# Altium footprint library LFCSP.PcbLib: 8 footprints
Each footprint in its own frame and in the unit in brackets; x right, y up, seen from the top. Pads: shape width x height; smd on the part's side, far side on the other; paste and mask are expansions set on the pad; w line width, h text height; cw(c..) or ccw(c..) is an arc to the next point about the centre after c.
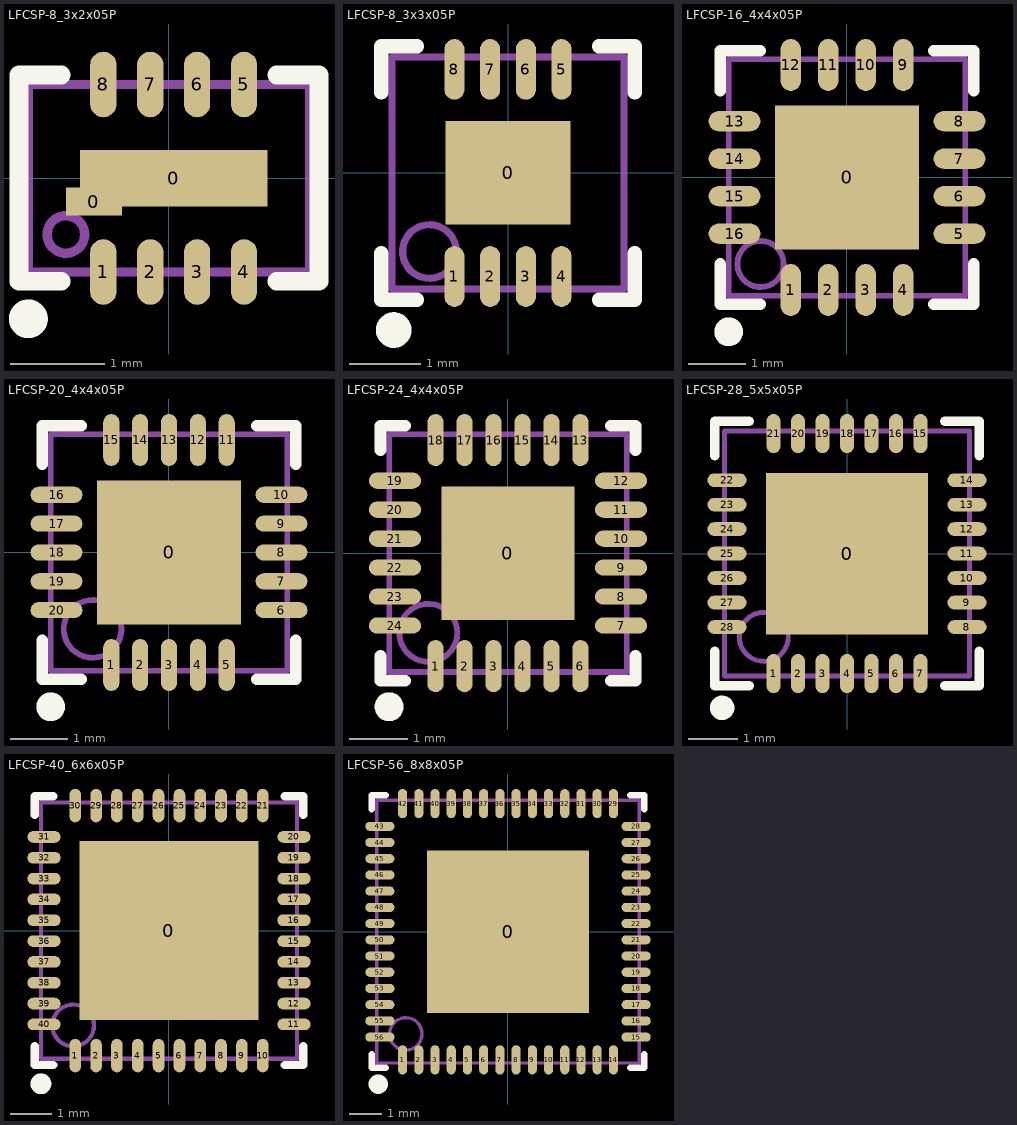
[diagram p0: the footprints below, top view; thin cyan lines are the x and y axes]

## LFCSP-8_3x2x05P [mm]
pads (10):
  rect 0.6x0.3 smd mask+0.051: 0(-0.8,-0.25)
  rect 2x0.6 smd mask+0.051: 0(0.05,0)
  oval 0.28x0.7 smd mask+0.051: 1(-0.7,-1) 2(-0.2,-1) 3(0.3,-1) 4(0.8,-1) 5(0.8,1) 6(0.3,1) 7(-0.2,1) 8(-0.7,1)
Top Overlay:
  circle w0.254: c-1.5,-1.5 r0.08
  lines w0.2: -1.15,-1.1 -1.6,-1.1 -1.6,1.1 -1.15,1.1 ; 1.15,-1.1 1.6,-1.1 1.6,1.1 1.15,1.1
Mechanical 13:
  circle w0.1: c-1.1,-0.6 r0.2
  lines w0.1: -1.5,-1 -1.5,1 1.5,1 1.5,-1 -1.5,-1

## LFCSP-8_3x3x05P [mm]
pads (9):
  rect 1.75x1.45 smd mask+0.051: 0(0,0)
  oval 0.28x0.85 smd mask+0.051: 1(-0.75,-1.45) 2(-0.25,-1.45) 3(0.25,-1.45) 4(0.75,-1.45) 5(0.75,1.45) 6(0.25,1.45) 7(-0.25,1.45) 8(-0.75,1.45)
Top Overlay:
  circle w0.25: c-1.6,-2.2 r0.125
  lines w0.2: -1.775,-1.125 -1.775,-1.775 -1.275,-1.775 ; -1.775,1.125 -1.775,1.775 -1.275,1.775 ; 1.275,-1.775 1.775,-1.775 1.775,-1.125 ; 1.275,1.775 1.775,1.775 1.775,1.125
Mechanical 13:
  circle w0.1: c-1.1,-1.1 r0.376
  lines w0.1: -1.625,-1.625 -1.625,1.625 1.625,1.625 1.625,-1.625 -1.625,-1.625

## LFCSP-16_4x4x05P [mm]
pads (18):
  rect 2.5x2.5 smd paste-1.225 mask+0.051: 0(0,0)
  oval 0.35x0.9 smd mask+0.051: 1(-0.975,-1.95) 2(-0.325,-1.95) 3(0.325,-1.95) 4(0.975,-1.95) 9(0.975,1.95) 10(0.325,1.95) 11(-0.325,1.95) 12(-0.975,1.95)
  oval 0.9x0.35 smd mask+0.051: 5(1.95,-0.975) 6(1.95,-0.325) 7(1.95,0.325) 8(1.95,0.975) 13(-1.95,0.975) 14(-1.95,0.325) 15(-1.95,-0.325) 16(-1.95,-0.975)
  rect 2.5x2.5 smd mask+0.051: ""(0,0)
Top Overlay:
  circle w0.25: c-2.05,-2.675 r0.125
  lines w0.2: -2.2,-1.5 -2.2,-2.2 -1.5,-2.2 ; -2.2,1.5 -2.2,2.2 -1.5,2.2 ; 1.5,-2.2 2.2,-2.2 2.2,-1.5 ; 1.5,2.2 2.2,2.2 2.2,1.5
Mechanical 13:
  circle w0.1: c-1.5,-1.5 r0.4
  lines w0.1: -2.05,-2.05 2.05,-2.05 2.05,2.05 -2.05,2.05 -2.05,-2.05

## LFCSP-20_4x4x05P [mm]
pads (21):
  rect 2.5x2.5 smd mask+0.051: 0(0,0)
  oval 0.28x0.9 smd mask+0.051: 1(-1,-1.95) 2(-0.5,-1.95) 3(0,-1.95) 4(0.5,-1.95) 5(1,-1.95) 11(1,1.95) 12(0.5,1.95) 13(0,1.95) 14(-0.5,1.95) 15(-1,1.95)
  oval 0.9x0.28 smd mask+0.051: 6(1.95,-1) 7(1.95,-0.5) 8(1.95,0) 9(1.95,0.5) 10(1.95,1) 16(-1.95,1) 17(-1.95,0.5) 18(-1.95,0) 19(-1.95,-0.5) 20(-1.95,-1)
Top Overlay:
  circle w0.25: c-2.05,-2.675 r0.125
  lines w0.2: -2.2,-1.525 -2.2,-2.2 -1.525,-2.2 ; -2.2,1.525 -2.2,2.2 -1.525,2.2 ; 1.525,-2.2 2.2,-2.2 2.2,-1.525 ; 1.525,2.2 2.2,2.2 2.2,1.525
Mechanical 13:
  circle w0.1: c-1.325,-1.325 r0.5
  lines w0.1: -2.05,-2.05 -2.05,2.05 2.05,2.05 2.05,-2.05 -2.05,-2.05

## LFCSP-24_4x4x05P [mm]
pads (26):
  rect 2.3x2.3 smd paste-1.05 mask+0.051: 0(0,0)
  oval 0.28x0.9 smd mask+0.051: 1(-1.25,-1.95) 2(-0.75,-1.95) 3(-0.25,-1.95) 4(0.25,-1.95) 5(0.75,-1.95) 6(1.25,-1.95) 13(1.25,1.95) 14(0.75,1.95) 15(0.25,1.95) 16(-0.25,1.95) 17(-0.75,1.95) 18(-1.25,1.95)
  oval 0.9x0.28 smd mask+0.051: 7(1.95,-1.25) 8(1.95,-0.75) 9(1.95,-0.25) 10(1.95,0.25) 11(1.95,0.75) 12(1.95,1.25) 19(-1.95,1.25) 20(-1.95,0.75) 21(-1.95,0.25) 22(-1.95,-0.25) 23(-1.95,-0.75) 24(-1.95,-1.25)
  rect 2.3x2.3 smd mask+0.051: ""(0,0)
Top Overlay:
  circle w0.25: c-2.05,-2.65 r0.125
  lines w0.2: -2.2,-1.775 -2.2,-2.2 -1.775,-2.2 ; -2.2,1.775 -2.2,2.2 -1.775,2.2 ; 1.775,-2.2 2.2,-2.2 2.2,-1.775 ; 1.775,2.2 2.2,2.2 2.2,1.775
Mechanical 13:
  circle w0.1: c-1.375,-1.375 r0.5
  lines w0.1: -2.05,-2.05 2.05,-2.05 2.05,2.05 -2.05,2.05 -2.05,-2.05

## LFCSP-28_5x5x05P [mm]
pads (29):
  rect 3.3x3.3 smd mask+0.051: 0(0,0)
  oval 0.28x0.8 smd mask+0.051: 1(-1.5,-2.45) 2(-1,-2.45) 3(-0.5,-2.45) 4(0,-2.45) 5(0.5,-2.45) 6(1,-2.45) 7(1.5,-2.45) 15(1.5,2.45) 16(1,2.45) 17(0.5,2.45) 18(0,2.45) 19(-0.5,2.45) 20(-1,2.45) 21(-1.5,2.45)
  oval 0.8x0.28 smd mask+0.051: 8(2.45,-1.5) 9(2.45,-1) 10(2.45,-0.5) 11(2.45,0) 12(2.45,0.5) 13(2.45,1) 14(2.45,1.5) 22(-2.45,1.5) 23(-2.45,1) 24(-2.45,0.5) 25(-2.45,0) 26(-2.45,-0.5) 27(-2.45,-1) 28(-2.45,-1.5)
Top Overlay:
  circle w0.25: c-2.55,-3.15 r0.125
  lines w0.2: -2.7,-2 -2.7,-2.7 -2,-2.7 ; -2.7,2 -2.7,2.7 -2,2.7 ; 2,-2.7 2.7,-2.7 2.7,-2 ; 2,2.7 2.7,2.7 2.7,2
Mechanical 13:
  circle w0.1: c-1.7,-1.7 r0.5
  lines w0.1: -2.5,-2.5 2.5,-2.5 2.5,2.5 -2.5,2.5 -2.5,-2.5

## LFCSP-40_6x6x05P [mm]
pads (41):
  rect 4.3x4.3 smd mask+0.051: 0(0,0)
  oval 0.28x0.8 smd mask+0.051: 1(-2.25,-3) 2(-1.75,-3) 3(-1.25,-3) 4(-0.75,-3) 5(-0.25,-3) 6(0.25,-3) 7(0.75,-3) 8(1.25,-3) 9(1.75,-3) 10(2.25,-3) 21(2.25,3) 22(1.75,3) 23(1.25,3) 24(0.75,3) 25(0.25,3) 26(-0.25,3) 27(-0.75,3) 28(-1.25,3) 29(-1.75,3) 30(-2.25,3)
  oval 0.8x0.28 smd mask+0.051: 11(3,-2.25) 12(3,-1.75) 13(3,-1.25) 14(3,-0.75) 15(3,-0.25) 16(3,0.25) 17(3,0.75) 18(3,1.25) 19(3,1.75) 20(3,2.25) 31(-3,2.25) 32(-3,1.75) 33(-3,1.25) 34(-3,0.75) 35(-3,0.25) 36(-3,-0.25) 37(-3,-0.75) 38(-3,-1.25) 39(-3,-1.75) 40(-3,-2.25)
Top Overlay:
  circle w0.25: c-3.075,-3.675 r0.125
  lines w0.2: -3.225,-2.775 -3.225,-3.225 -2.775,-3.225 ; -3.225,2.775 -3.225,3.225 -2.775,3.225 ; 2.775,-3.225 3.225,-3.225 3.225,-2.775 ; 2.775,3.225 3.225,3.225 3.225,2.775
Mechanical 13:
  circle w0.1: c-2.3,-2.275 r0.5
  lines w0.1: -3.075,-3.075 -3.075,3.075 3.075,3.075 3.075,-3.075 -3.075,-3.075

## LFCSP-56_8x8x05P [mm]
pads (57):
  rect 5x5 smd mask+0.051: 0(0,0)
  oval 0.28x0.9 smd mask+0.051: 1(-3.25,-3.95) 2(-2.75,-3.95) 3(-2.25,-3.95) 4(-1.75,-3.95) 5(-1.25,-3.95) 6(-0.75,-3.95) 7(-0.25,-3.95) 8(0.25,-3.95) 9(0.75,-3.95) 10(1.25,-3.95) 11(1.75,-3.95) 12(2.25,-3.95) 13(2.75,-3.95) 14(3.25,-3.95) 29(3.25,3.95) 30(2.75,3.95) 31(2.25,3.95) 32(1.75,3.95) 33(1.25,3.95) 34(0.75,3.95) 35(0.25,3.95) 36(-0.25,3.95) 37(-0.75,3.95) 38(-1.25,3.95) 39(-1.75,3.95) 40(-2.25,3.95) 41(-2.75,3.95) 42(-3.25,3.95)
  oval 0.9x0.28 smd mask+0.051: 15(3.95,-3.25) 16(3.95,-2.75) 17(3.95,-2.25) 18(3.95,-1.75) 19(3.95,-1.25) 20(3.95,-0.75) 21(3.95,-0.25) 22(3.95,0.25) 23(3.95,0.75) 24(3.95,1.25) 25(3.95,1.75) 26(3.95,2.25) 27(3.95,2.75) 28(3.95,3.25) 43(-3.95,3.25) 44(-3.95,2.75) 45(-3.95,2.25) 46(-3.95,1.75) 47(-3.95,1.25) 48(-3.95,0.75) 49(-3.95,0.25) 50(-3.95,-0.25) 51(-3.95,-0.75) 52(-3.95,-1.25) 53(-3.95,-1.75) 54(-3.95,-2.25) 55(-3.95,-2.75) 56(-3.95,-3.25)
Top Overlay:
  circle w0.3: c-4,-4.7 r0.15
  lines w0.2: -4.2,-3.775 -4.2,-4.2 -3.775,-4.2 ; -4.2,3.775 -4.2,4.2 -3.775,4.2 ; 3.775,-4.2 4.2,-4.2 4.2,-3.775 ; 3.775,4.2 4.2,4.2 4.2,3.775
Mechanical 13:
  circle w0.1: c-3.15,-3.15 r0.5
  lines w0.1: -4.05,-4.05 4.05,-4.05 4.05,4.05 -4.05,4.05 -4.05,-4.05